# Altium schematic symbol library Resistors 0805.SchLib: 2 symbols
Pins are listed as number, name and electrical type; pins without a type are passive.

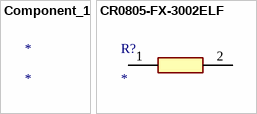
[diagram p0: symbols Component_1 to CR0805-FX-3002ELF]

## Component_1
designator *

## CR0805-FX-3002ELF
designator R?
Resistor; Manufacturer_Name: Bourns; Manufacturer_Part_Number: CR0805-FX-3002ELF; Description: Thick Film Resistors - SMD 30K 1%; Datasheet Link: https://www.bourns.com/pdfs/chpreztr.pdf; Height: 0.6mm; Mouser Part Number: 652-CR0805FX-3002ELF; Mouser Price/Stock: https://www.mouser.co.uk/ProductDetail/Bourns/CR0805-FX-3002ELF?qs=4vGXhLEMbUze1FDi6Ydd5A%3D%3D; Arrow Part Number: CR0805-FX-3002ELF; Arrow Price/Stock: https://www.arrow.com/en/products/cr0805-fx-3002elf/bourns
footprint RESC2012X60N
pins: 1, 2